# EAGLE library part RESISTOR_4PACK_US (library microbuilder)
Resistor Packs (4 resistors) 4 x 0603 10K 1/16W - Digikey: YC164J-10KCT-ND
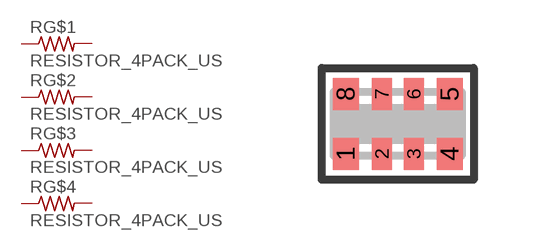
[diagram p126: symbol with the pads of RESPACK_4X0603; footprint RESPACK_4X0603]

Designator prefix R; gates G$1=R-US G$2=R-US G$3=R-US G$4=R-US

## RESISTOR_4PACK_US  [RESPACK_4X0603]
1  G$1:1  pas
2  G$2:1  pas
3  G$3:1  pas
4  G$4:1  pas
5  G$4:2  pas
6  G$3:2  pas
7  G$2:2  pas
8  G$1:2  pas

## Footprint RESPACK_4X0603 (pad centres in mm)
smd 0.65 x 0.8: 1 -1.3,-0.75; 4 1.3,-0.75; 5 1.3,0.75; 8 -1.3,0.75
smd 0.5 x 0.8: 2 -0.4,-0.75; 3 0.4,-0.75; 6 0.4,0.75; 7 -0.4,0.75